# EAGLE library part CAY16-222J4LF (library SamacSys_Parts)
2.2k Ohm ±5% 62.5mW Power Per Element Isolated 4 Resistor Network/Array ±200ppm/°C 1206 (3216 Metric), Convex, Long Side Terminals Source: Datasheet <https://www.bourns.com/docs/Product-Datasheets/CATCAY.pdf>
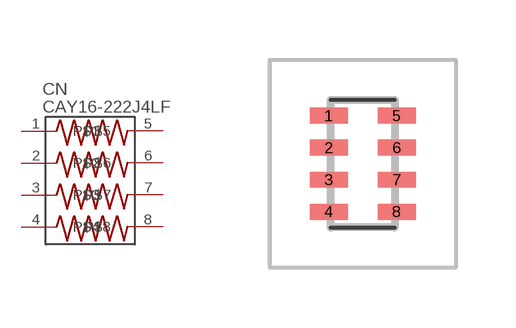
[diagram p5: symbol with the pads of CAY16-222J4LF; footprint CAY16-222J4LF]

Designator prefix CN

## CAY16-222J4LF (DESCRIPTION: RES ARRAY 4 RES 2.2K OHM 1206; DIGIKEY_NUMBER: CAY16-222J4LFCT-ND; HEIGHT: 0mm; MANUFACTURER_NAME: Bourns Inc; MANUFACTURER_PART_NUMBER: CAY16-222J4LF)  [CAY16-222J4LF]
1  P$1
2  P$2
3  P$3
4  P$4
5  P$5
6  P$6
7  P$7
8  P$8

## Footprint CAY16-222J4LF (pad centres in mm)
CA0612KRX7R7BB104
smd 0.95 x 0.4: 1 -0.85,1.2; 2 -0.85,0.4; 3 -0.85,-0.4; 4 -0.85,-1.2; 5 0.85,1.2; 6 0.85,0.4; 7 0.85,-0.4; 8 0.85,-1.2